# Altium integrated library SMD Res Lib.IntLib: 1 symbol
Pins are listed as number, name and electrical type; pins without a type are passive.

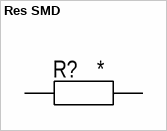
[diagram p0: symbol Res SMD]

## Res SMD
designator R?
Thin Film Resistor; Case: *; Manufacture: *; Model: *; Value: *
footprint 0402 (0402 Reflow Pad)
footprint 0603 (0603 Reflow Pad)
footprint 0805 (0805 Reflow Pad)
footprint 1206 (1206 Reflow Pad)
pins: 1 "ResPin", 2 "ResPin"